# Altium footprint library STM32F103.PcbLib: 1 footprints
Each footprint in its own frame and in the unit in brackets; x right, y up, seen from the top. Pads: shape width x height; smd on the part's side, far side on the other; paste and mask are expansions set on the pad; w line width, h text height; cw(c..) or ccw(c..) is an arc to the next point about the centre after c.
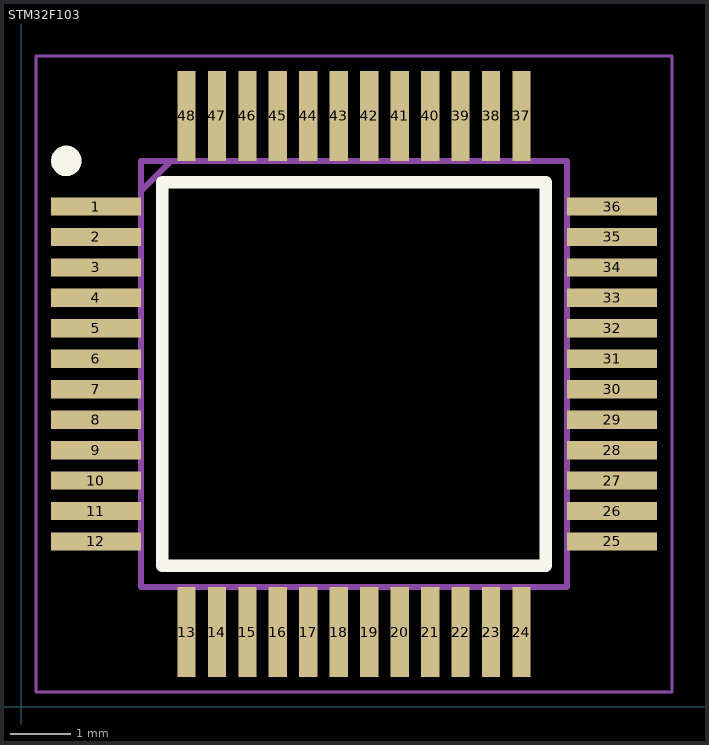
[diagram p0: the footprint, top view; thin cyan lines are the x and y axes]

## STM32F103 [mm]
pads (48):
  rect 1.475x0.3 smd: 1(1.223,8.211) 2(1.223,7.711) 3(1.223,7.211) 4(1.223,6.711) 5(1.223,6.211) 6(1.223,5.711) 7(1.223,5.211) 8(1.223,4.711) 9(1.223,4.211) 10(1.223,3.711) 11(1.223,3.211) 12(1.223,2.711) 25(9.699,2.711) 26(9.699,3.211) 27(9.699,3.711) 28(9.699,4.211) 29(9.699,4.711) 30(9.699,5.211) 31(9.699,5.711) 32(9.699,6.211) 33(9.699,6.711) 34(9.699,7.211) 35(9.699,7.711) 36(9.699,8.211)
  rect 0.3x1.475 smd: 13(2.711,1.223) 14(3.211,1.223) 15(3.711,1.223) 16(4.211,1.223) 17(4.711,1.223) 18(5.211,1.223) 19(5.711,1.223) 20(6.211,1.223) 21(6.711,1.223) 22(7.211,1.223) 23(7.711,1.223) 24(8.211,1.223) 37(8.211,9.699) 38(7.711,9.699) 39(7.211,9.699) 40(6.711,9.699) 41(6.211,9.699) 42(5.711,9.699) 43(5.211,9.699) 44(4.711,9.699) 45(4.211,9.699) 46(3.711,9.699) 47(3.211,9.699) 48(2.711,9.699)
Top Overlay:
  circle w0.25: c0.736,8.961 r0.125
  lines w0.2: 2.311,2.311 2.311,8.611 8.611,8.611 8.611,2.311 2.311,2.311
Mechanical 13:
  lines w0.1: 1.961,8.461 2.461,8.961 ; 1.961,1.961 1.961,8.961 8.961,8.961 8.961,1.961 1.961,1.961
Mechanical 15:
  lines w0.05: 0.236,0.236 0.236,10.686 10.686,10.686 10.686,0.236 0.236,0.236
3D body "STM32F103C8T6TR.stp": height 1.6, standoff 0, extent 0.961,0.961 9.961,9.961